# Altium schematic symbol library Sheye-Diode.SchLib: 78 symbols
Pins are listed as number, name and electrical type; pins without a type are passive.

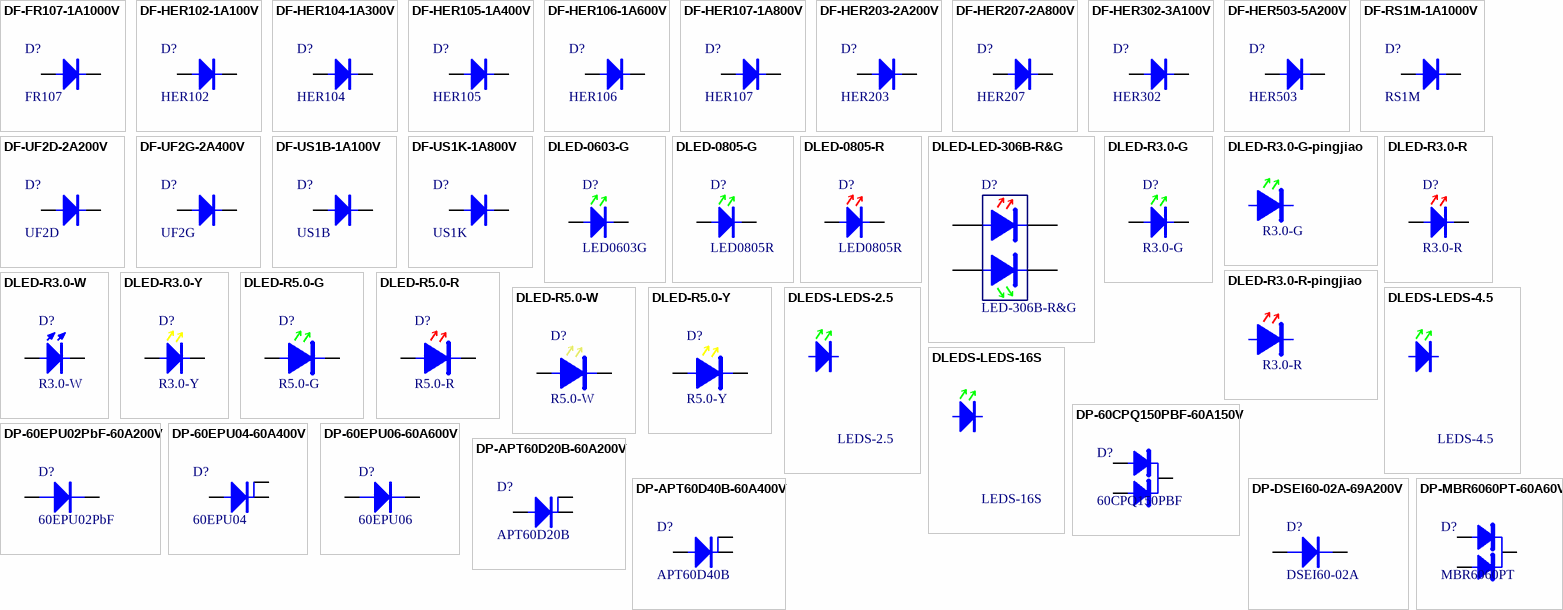
[diagram p0: symbols DF-FR107-1A1000V to DP-MBR6060PT-60A60V]

## DF-FR107-1A1000V
designator D?, comment FR107
插件二极管-快恢复; 规格型号: FR107-1A1000V; 货品编码: 322002; 生产商: *; 供应商: *; 备注: *
footprint D-DO-41
footprint D-DO-41/V
pins: 1, 2

## DF-HER102-1A100V
designator D?, comment HER102
插件二极管-快恢复; 规格型号: HER102-1A100V; 货品编码: 322023; 生产商: *; 供应商: *; 备注: *
footprint D-DO-41
pins: 1, 2

## DF-HER104-1A300V
designator D?, comment HER104
插件二极管-快恢复; 规格型号: HER104-1A300V; 货品编码: 322036; 生产商: *; 供应商: *; 备注: *
footprint D-DO-41
pins: 1, 2

## DF-HER105-1A400V
designator D?, comment HER105
插件二极管-快恢复; 规格型号: HER105-1A400V; 货品编码: 322037; 生产商: *; 供应商: *; 备注: *
footprint D-DO-41
pins: 1, 2

## DF-HER106-1A600V
designator D?, comment HER106
插件二极管-快恢复; 规格型号: HER107-1A600V; 货品编码: 无样品无编码; 生产商: *; 供应商: *; 备注: *
footprint D-DO-41
pins: 1, 2

## DF-HER107-1A800V
designator D?, comment HER107
插件二极管-快恢复; 规格型号: HER107-1A800V; 货品编码: 322027; 生产商: *; 供应商: *; 备注: *
footprint D-DO-41
pins: 1, 2

## DF-HER203-2A200V
designator D?, comment HER203
插件二极管-快恢复; 规格型号: HER203-2A200V; 货品编码: 322024; 生产商: *; 供应商: *; 备注: *
footprint D-DO-15
pins: 1, 2

## DF-HER207-2A800V
designator D?, comment HER207
插件二极管-快恢复; 规格型号: HER207-2A800V; 货品编码: 322025; 生产商: *; 供应商: *; 备注: *
footprint D-DO-15
pins: 1, 2

## DF-HER302-3A100V
designator D?, comment HER302
插件二极管-快恢复; 规格型号: HER302-3A100V; 货品编码: 322026; 生产商: *; 供应商: *; 备注: *
footprint D-DO-201AD
pins: 1, 2

## DF-HER503-5A200V
designator D?, comment HER503
插件二极管-快恢复; 规格型号: HER503-5A200V; 货品编码: 322047; 生产商: *; 供应商: *; 备注: *
footprint D-DO-201AD
pins: 1, 2

## DF-RS1M-1A1000V
designator D?, comment RS1M
贴片二极管-快恢复; 规格型号: RS1M-1A1000V; 货品编码: 321010; 生产商: *; 供应商: *; 备注: *
footprint D-SMA/DO-214AC
pins: 1, 2

## DF-UF2D-2A200V
designator D?, comment UF2D
贴片二极管-快恢复; 规格型号: UF2D-2A200V; 货品编码: 321013; 生产商: *; 供应商: *; 备注: *
footprint D-SMB/DO-214AA
pins: 1, 2

## DF-UF2G-2A400V
designator D?, comment UF2G
贴片二极管-快恢复; 规格型号: UF2G-2A400V; 货品编码: 321016; 生产商: *; 供应商: *; 备注: *
footprint D-SMB/DO-214AA
pins: 1, 2

## DF-US1B-1A100V
designator D?, comment US1B
贴片二极管-快恢复; 规格型号: US1B-1A100V; 货品编码: 321011; 生产商: *; 供应商: *; 备注: *
footprint D-SMA/DO-214AC
pins: 1, 2

## DF-US1K-1A800V
designator D?, comment US1K
贴片二极管-快恢复; 规格型号: US1K-1A800V; 货品编码: 321012; 生产商: *; 供应商: *; 备注: *
footprint D-SMA/DO-214AC
pins: 1, 2

## DLED-0603-G
designator D?, comment LED0603G
贴片二极管-LED; 规格型号: 0603-GREEN; 货品编码: 无样品无编码; 生产商: *; 供应商: *; 备注: *
footprint D-LED0603G
pins: 1, 2

## DLED-0805-G
designator D?, comment LED0805R
贴片二极管-LED; 规格型号: 0805-GREEN; 货品编码: 321007; 生产商: *; 供应商: *; 备注: *
footprint D-LED0805
pins: 1, 2

## DLED-0805-R
designator D?, comment LED0805R
贴片二极管-LED; 规格型号: 0805-RED; 货品编码: 321015; 生产商: *; 供应商: *; 备注: *
footprint D-LED0805
pins: 1, 2

## DLED-LED-306B-R&G
designator D?, comment LED-306B-R&G
插件二极管-LED间隔柱; 规格型号: LED-306B，LED间隔柱，平脚LEDX2，90度; 货品编码: 372020; 供应商: *; 备注: *
footprint D-LED306B (Footprint not found)
pins: 1, 2, 3, 4

## DLED-R3.0-G
designator D?, comment R3.0-G
插件二极管-LED; 规格型号: 圆头3.0mm-绿发绿-引脚25mm; 货品编码: 322016; 生产商: *; 供应商: *; 备注: *
footprint D-LED3MM (Footprint not found)
footprint D-LED3MM-H (Typical INFRARED GaAs LED; 2 Leads)
pins: 1, 2

## DLED-R3.0-G-pingjiao
designator D?, comment R3.0-G
插件二极管-LED; 规格型号: 高亮3mm平脚 绿发绿 引脚25mm ,装在LED灯座里面; 货品编码: 322031; 生产商: *; 供应商: *; 备注: *

## DLED-R3.0-R
designator D?, comment R3.0-R
插件二极管-LED; 规格型号: 圆头3.0mm-红发红-引脚25mm; 货品编码: 322015; 生产商: *; 供应商: *; 备注: *
footprint D-LED3MM (Footprint not found)
footprint D-LED3MM-H (Typical INFRARED GaAs LED; 2 Leads)
pins: 1, 2

## DLED-R3.0-R-pingjiao
designator D?, comment R3.0-R
插件二极管-LED; 规格型号: 高亮3mm平脚 红发红 引脚25mm ,装在LED灯座里面; 货品编码: 322030; 生产商: *; 供应商: *; 备注: *

## DLED-R3.0-W
designator D?, comment R3.0-W
插件二极管-LED; 规格型号: 圆头3.0mm-白发白-引脚25mm; 货品编码: 322017; 生产商: *; 供应商: *; 备注: *
footprint D-LED3MM (Footprint not found)
pins: 1, 2

## DLED-R3.0-Y
designator D?, comment R3.0-Y
插件二极管-LED; 规格型号: 圆头3.0mm-黄发黄-引脚25mm; 货品编码: 322033; 生产商: *; 供应商: *; 备注: *
footprint D-LED3MM (Footprint not found)
pins: 1, 2

## DLED-R5.0-G
designator D?, comment R5.0-G
插件二极管-LED; 规格型号: 圆头5.0mm-绿发绿-引脚25mm; 货品编码: 322021; 生产商: *; 供应商: *; 备注: *
footprint D-LED5MM (Footprint not found)
pins: 1, 2

## DLED-R5.0-R
designator D?, comment R5.0-R
插件二极管-LED; 规格型号: 圆头5.0mm-红发红-引脚25mm; 货品编码: 322019; 生产商: *; 供应商: *; 备注: *
footprint D-LED5MM (Footprint not found)
pins: 1, 2

## DLED-R5.0-W
designator D?, comment R5.0-W
插件二极管-LED; 规格型号: 圆头5.0mm-白发白-引脚25mm; 货品编码: 322020; 生产商: *; 供应商: *; 备注: *
footprint D-LED5MM (Footprint not found)
pins: 1, 2

## DLED-R5.0-Y
designator D?, comment R5.0-Y
插件二极管-LED; 规格型号: 圆头5.0mm-黄发黄-引脚25mm; 货品编码: 322018; 生产商: *; 供应商: *; 备注: *
footprint D-LED5MM (Footprint not found)
pins: 1, 2

## DLEDS-LEDS-2.5
designator DS?, comment LEDS-2.5
插件二极管-LED间隔柱; 规格型号: 2.5mmLED间隔柱; 货品编码: 372007; 供应商: *; 备注: *

## DLEDS-LEDS-4.5
designator DS?, comment LEDS-4.5
插件二极管-LED间隔柱; 规格型号: 4.5mmLED间隔柱; 货品编码: 372022; 供应商: *; 备注: *

## DLEDS-LEDS-16S
designator DS?, comment LEDS-16S
插件二极管-LED间隔柱; 规格型号: 16mmLED间隔柱; 货品编码: 372006; 供应商: *; 备注: *

## DP-60CPQ150PBF-60A150V
designator D?, comment 60CPQ150PBF
插件二极管-功率; 规格型号: 60CPQ150PBF-60A150V; 货品编码: 322045; 生产商: *; 供应商: *; 备注: *
footprint D-TO-247-HU3 (Footprint not found)
pins: 1, 2, 3

## DP-60EPU02PbF-60A200V
designator D?, comment 60EPU02PbF
插件二极管-功率; 规格型号: 60EPU02PbF-60A200V; 货品编码: 322039; 生产商: *; 供应商: *; 备注: *
footprint D-TO-247-HU2 (Footprint not found)
pins: 1, 2

## DP-60EPU04-60A400V
designator D?, comment 60EPU04
插件二极管-功率; 规格型号: 60EPU04-60A400V; 货品编码: 322034; 生产商: *; 供应商: *; 备注: *
footprint D-TO-247-HU3
pins: 1, 2, 3

## DP-60EPU06-60A600V
designator D?, comment 60EPU06
插件二极管-功率; 规格型号: 60EPU06-60A600V; 货品编码: 322051; 生产商: *; 供应商: *; 备注: *
footprint D-TO-247-HU2 (Footprint not found)
pins: 1, 2

## DP-APT60D20B-60A200V
designator D?, comment APT60D20B
插件二极管-功率; 规格型号: APT60D20B-60A200V; 货品编码: 322022; 生产商: *; 供应商: *; 备注: *
footprint D-TO-247-HU3
pins: 1, 2, 3

## DP-APT60D40B-60A400V
designator D?, comment APT60D40B
插件二极管-功率; 规格型号: APT60D40B-60A400V; 货品编码: 322007; 生产商: *; 供应商: *; 备注: *
footprint D-TO-247-HU3
pins: 1, 2, 3

## DP-DSEI60-02A-69A200V
designator D?, comment DSEI60-02A
插件二极管-功率; 生产商: IXYS; 规格型号: DSEI60-02A-69A200V; 备注: FRED; 货品编码: 无样品无编码; 供应商: *
footprint D-TO-247-HU2 (Footprint not found)
pins: 1, 2

## DP-MBR6060PT-60A60V
designator D?, comment MBR6060PT
插件二极管-功率; 规格型号: MBR6060PT-60A60V; 货品编码: 322044; 生产商: *; 供应商: *; 备注: *
footprint D-TO-247-HU3 (Footprint not found)
pins: 1, 2, 3

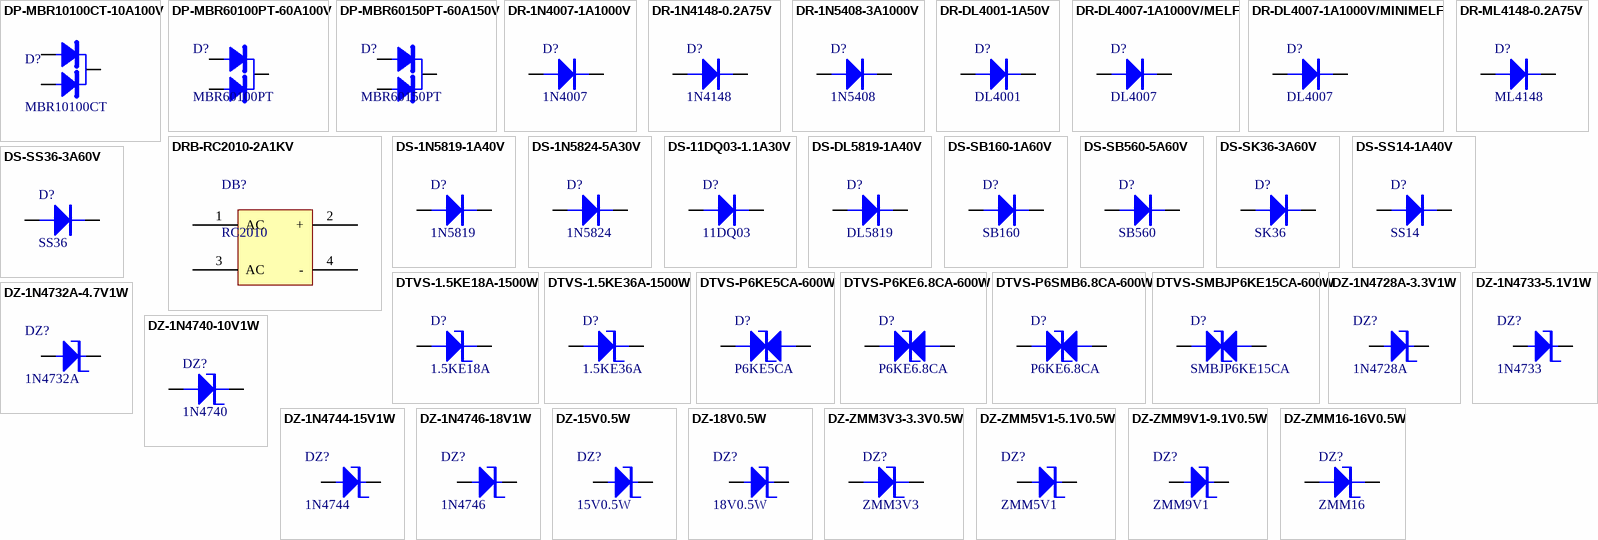
[diagram p1: symbols DP-MBR10100CT-10A100V to DZ-ZMM16-16V0.5W]

## DP-MBR10100CT-10A100V
designator D?, comment MBR10100CT
插件二极管-功率; 规格型号: MBR10100CT-10A100V; 货品编码: 322043; 生产商: *; 供应商: *; 备注: *
footprint D-TO-220AB (Footprint not found)
pins: 1, 2, 3

## DP-MBR60100PT-60A100V
designator D?, comment MBR60100PT
插件二极管-功率; 规格型号: MBR60100PT-60A100V; 货品编码: 322048; 生产商: *; 供应商: *; 备注: *
footprint D-TO-247-HU3 (Footprint not found)
pins: 1, 2, 3

## DP-MBR60150PT-60A150V
designator D?, comment MBR60150PT
插件二极管-功率; 规格型号: MBR60150PT-60A150V; 货品编码: 322028; 生产商: *; 供应商: *; 备注: *
footprint D-TO-247-HU3 (Footprint not found)
pins: 1, 2, 3

## DR-1N4007-1A1000V
designator D?, comment 1N4007
插件二极管-整流; 规格型号: 1N4007-1A1000V; 货品编码: 322003; 生产商: *; 供应商: *; 备注: *
footprint D-DO-41
footprint D-DO-41/V
footprint D-DO-35 (7.62mm IN4148)
pins: 1, 2

## DR-1N4148-0.2A75V
designator D?, comment 1N4148
插件二极管-整流; 规格型号: 1N4148-0.2A75V; 货品编码: 322001; 生产商: *; 供应商: *; 备注: *
footprint D-DO-35 (7.62mm IN4148)
pins: 1, 2

## DR-1N5408-3A1000V
designator D?, comment 1N5408
插件二极管-整流; 规格型号: 1N5408-3A1000V; 货品编码: 322006; 生产商: *; 供应商: *; 备注: *
footprint D-DO-201AD
footprint D-DO-15/V
pins: 1, 2

## DR-DL4001-1A50V
designator D?, comment DL4001
贴片二极管-整流; 规格型号: DL4001-1A50V; 货品编码: 321006; 生产商: *; 供应商: *; 备注: *
footprint D-MELF
pins: 1, 2

## DR-DL4007-1A1000V/MELF
designator D?, comment DL4007
贴片二极管-整流; 规格型号: DL4007-1A1000V/MELF; 货品编码: 321014; 生产商: *; 供应商: *; 备注: *
footprint D-MELF
pins: 1, 2

## DR-DL4007-1A1000V/MINIMELF
designator D?, comment DL4007
贴片二极管-整流; 规格型号: DL4007-1A1000V/MINIMELF; 货品编码: 321009; 生产商: *; 供应商: *; 备注: *
footprint D-MiniMELF
pins: 1, 2

## DR-ML4148-0.2A75V
designator D?, comment ML4148
贴片二极管-整流; 规格型号: ML4148-0.2A75V; 货品编码: 321003; 生产商: *; 供应商: *; 备注: *
footprint D-MiniMELF
pins: 1, 2

## DRB-RC2010-2A1KV
designator DB?, comment RC2010
插件二极管-全桥; 规格型号: RC2010-2A1KV; 货品编码: 322032; 生产商: *; 供应商: *; 备注: *
footprint D-BRIDGE(2W/1000V)
pins: 1 AC, 2 +, 3 AC, 4 -

## DS-1N5819-1A40V
designator D?, comment 1N5819
插件二极管-肖特基; 规格型号: 1N5819-1A40V; 货品编码: 322005; 生产商: *; 供应商: *; 备注: *
footprint D-DO-41
pins: 1, 2

## DS-1N5824-5A30V
designator D?, comment 1N5824
贴片二极管-肖特基; 规格型号: 1N5824-5A30V; 货品编码: 321001; 生产商: *; 供应商: *; 备注: *
footprint D-SMC/DO-214AB (Magnetic-Core Inductor with Winding Polarity Marking; 2 Leads)
pins: 1, 2

## DS-11DQ03-1.1A30V
designator D?, comment 11DQ03
插件二极管-肖特基; 规格型号: 11DQ03-1.1A30V; 货品编码: 322011; 生产商: *; 供应商: *; 备注: *
footprint D-DO-41
pins: 1, 2

## DS-DL5819-1A40V
designator D?, comment DL5819
贴片二极管-肖特基; 规格型号: DL5819-1A40V; 货品编码: 321002; 生产商: *; 供应商: *; 备注: *
footprint D1206
pins: 1, 2

## DS-SB160-1A60V
designator D?, comment SB160
插件二极管-肖特基; 规格型号: SB160-1A60V; 货品编码: 322046; 生产商: *; 供应商: *; 备注: *
footprint D-DO-41
pins: 1, 2

## DS-SB560-5A60V
designator D?, comment SB560
插件二极管-肖特基; 规格型号: SB560-5A60V; 货品编码: 322040; 生产商: *; 供应商: *; 备注: *
footprint D-DO-201AD
pins: 1, 2

## DS-SK36-3A60V
designator D?, comment SK36
贴片二极管-肖特基; 规格型号: SK36-3A60V; 货品编码: 321019; 生产商: *; 供应商: *; 备注: *
footprint D-SMC/DO-214AB (Magnetic-Core Inductor with Winding Polarity Marking; 2 Leads)
pins: 1, 2

## DS-SS14-1A40V
designator D?, comment SS14
贴片二极管-肖特基; 规格型号: SS14-1A40V; 货品编码: 321018; 生产商: *; 供应商: *; 备注: *
footprint D-SMA/DO-214AC (Footprint not found)
pins: 1, 2

## DS-SS36-3A60V
designator D?, comment SS36
贴片二极管-肖特基; 规格型号: SS36-3A60V; 货品编码: 321019; 生产商: *; 供应商: *; 备注: *
footprint D-SMB/DO-214AA
pins: 1, 2

## DTVS-1.5KE18A-1500W
designator D?, comment 1.5KE18A
插件二极管-TVS; 规格型号: 1.5KE18A-1500W; 货品编码: 322013; 生产商: *; 供应商: *; 备注: *
footprint D-DO-201AD
pins: 1, 2

## DTVS-1.5KE36A-1500W
designator D?, comment 1.5KE36A
插件二极管-TVS; 规格型号: 1.5KE36A-1500W; 货品编码: 322014; 生产商: *; 供应商: *; 备注: *
footprint D-DO-201AD
pins: 1, 2

## DTVS-P6KE5CA-600W
designator D?, comment P6KE5CA
插件二极管-TVS; 规格型号: P6KE5CA-600W; 货品编码: 322008; 生产商: *; 供应商: *; 备注: *
footprint D-DO-15
pins: 1, 2

## DTVS-P6KE6.8CA-600W
designator D?, comment P6KE6.8CA
插件二极管-TVS; 规格型号: DTVS-P6KE6.8CA-600W; 货品编码: 322029; 生产商: *; 供应商: *; 备注: *
footprint D-DO-15
pins: 1, 2

## DTVS-P6SMB6.8CA-600W
designator D?, comment P6KE6.8CA
贴片二极管-TVS; 规格型号: P6SMB6.8CA-600W; 货品编码: 321017; 生产商: *; 供应商: *; 备注: *
footprint D-SMB/DO-214AA
pins: 1, 2

## DTVS-SMBJP6KE15CA-600W
designator D?, comment SMBJP6KE15CA
贴片二极管-TVS; 规格型号: SMBJP6KE15CA-600W; 货品编码: 321021; 生产商: *; 供应商: *; 备注: *
footprint D-SMB/DO-214AA
pins: 1, 2

## DZ-1N4728A-3.3V1W
designator DZ?, comment 1N4728A
插件二极管-稳压; 规格型号: 1N4728A-3.3V1W; 货品编码: 322038; 生产商: *; 供应商: *; 备注: *
footprint D-DO-41
pins: 1, 2

## DZ-1N4732A-4.7V1W
designator DZ?, comment 1N4732A
插件二极管-稳压; 规格型号: 1N4732A-4.7V1W; 货品编码: 322050; 生产商: *; 供应商: *; 备注: *
footprint D-DO-41
pins: 1, 2

## DZ-1N4733-5.1V1W
designator DZ?, comment 1N4733
插件二极管-稳压; 规格型号: 1N4733-5.1V1W; 货品编码: 322035; 生产商: *; 供应商: *; 备注: *
footprint D-DO-41
pins: 1, 2

## DZ-1N4740-10V1W
designator DZ?, comment 1N4740
插件二极管-稳压; 规格型号: 1N4740-10V1W; 货品编码: 无样品无编码; 生产商: *; 供应商: *; 备注: *
footprint D-DO-41
footprint D-DIODE3.5/V
pins: 1, 2

## DZ-1N4744-15V1W
designator DZ?, comment 1N4744
插件二极管-稳压; 规格型号: 1N4744-15V1W; 货品编码: 322004; 生产商: *; 供应商: *; 备注: *
footprint D-DO-41
pins: 1, 2

## DZ-1N4746-18V1W
designator DZ?, comment 1N4746
插件二极管-稳压; 规格型号: 1N4746-18V1W; 货品编码: 322012; 生产商: *; 供应商: *; 备注: *
footprint D-DO-41
pins: 1, 2

## DZ-15V0.5W
designator DZ?, comment 15V0.5W
插件二极管-稳压; 货品编码: 322009; 生产商: *; 规格型号: 15V0.5W; 供应商: *; 备注: *
footprint D-DO-41
pins: 1, 2

## DZ-18V0.5W
designator DZ?, comment 18V0.5W
插件二极管-稳压; 货品编码: 322010; 生产商: *; 规格型号: 18V0.5W; 供应商: *; 备注: *
footprint D-DO-41
pins: 1, 2

## DZ-ZMM3V3-3.3V0.5W
designator DZ?, comment ZMM3V3
贴片二极管-稳压; 规格型号: ZMM3V3-3.3V0.5W; 货品编码: 321020; 生产商: *; 供应商: *; 备注: *
footprint D-MiniMELF
pins: 1, 2

## DZ-ZMM5V1-5.1V0.5W
designator DZ?, comment ZMM5V1
贴片二极管-稳压; 规格型号: ZMM5V1-5.1V0.5W; 货品编码: 321022; 生产商: *; 供应商: *; 备注: *
footprint D-MiniMELF
pins: 1, 2

## DZ-ZMM9V1-9.1V0.5W
designator DZ?, comment ZMM9V1
贴片二极管-稳压; 规格型号: ZMM9V1-9.1V0.5W; 货品编码: 321027; 生产商: *; 供应商: *; 备注: *
footprint D-MiniMELF
pins: 1, 2

## DZ-ZMM16-16V0.5W
designator DZ?, comment ZMM16
贴片二极管-稳压; 规格型号: ZMM16-16V0.5W; 货品编码: 321024; 生产商: *; 供应商: *; 备注: *
footprint D-MiniMELF
pins: 1, 2